# Altium integrated library 100uF.IntLib: 1 symbol
Pins are listed as number, name and electrical type; pins without a type are passive.

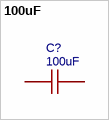
[diagram p0: symbol 100uF]

## 100uF
designator C?
BOM_Manufacturer: Murata Electronics; BOM_Manufacturer Part: GRM31CR61A107ME05L; nameAlias: Capacitance; Contributor: LCSC; BOM_Supplier: LCSC; BOM_Supplier Part: C312983; BOM_JLCPCB Part Class: Extended Part; spicePre: C; spiceSymbolName: GRM31CR61A107ME05L
footprint C1206
pins: 1, 2